# EAGLE library part DA2032-AL (library inductor-coilcraft-2)
Flyback Transformer for Linear Technology LT3750 Reference: http://www.coilcraft.com/da2032.cfm L - 10 uH TurnsRatio Pri:Sec - 1:10 Ipeak - 3.0 A Interwinding capacitance - 67 pF DCRmax: Pri - 0.013, Sec - 1.60 Ohms
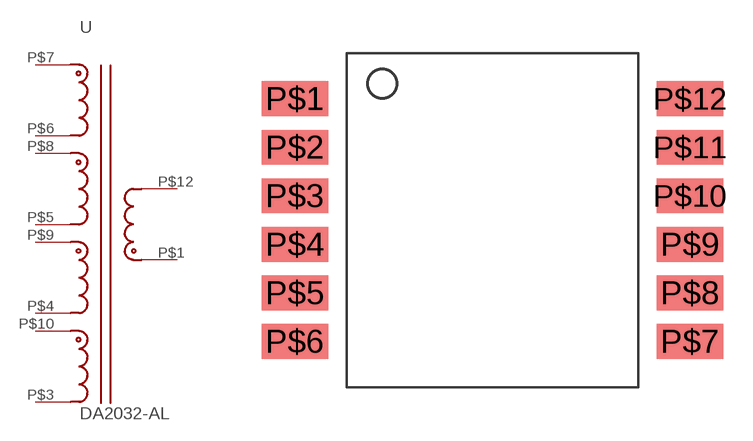
[diagram p1: symbol with the pads of DA2032-AL; footprint DA2032-AL]

Designator prefix -

## DA2032-AL  [DA2032-AL]
P$1  1  pas
P$3  3  pas
P$4  4  pas
P$5  5  pas
P$6  6  pas
P$7  7  pas
P$8  8  pas
P$9  9  pas
P$10  10  pas
P$12  12  pas

## Footprint DA2032-AL (pad centres in mm)
smd 3.43 x 1.79: P$1 -10.16,6.25; P$2 -10.16,3.75; P$3 -10.16,1.25; P$4 -10.16,-1.25; P$5 -10.16,-3.75; P$6 -10.16,-6.25; P$7 10.16,-6.25; P$8 10.16,-3.75; P$9 10.16,-1.25; P$10 10.16,1.25; P$11 10.16,3.75; P$12 10.16,6.25